# EAGLE library part MAX1614 (library custom-devices)
High-Side, N-Channel MOSFET Switch Driver
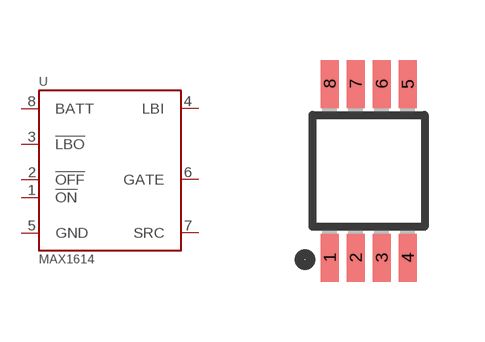
[diagram p24: symbol with the pads of UMAX8; footprint UMAX8]

Designator prefix U

## MAX1614 (DIGI-KEY: MAX1614EUA+-ND; MOUSER: 700-MAX1614EUAT)  [UMAX8]
1  !ON
2  !OFF
3  !LBO
4  LBI
5  GND
6  GATE
7  SRC
8  BATT

## Footprint UMAX8 (pad centres in mm)
micro MAX Package
smd 0.45 x 1.2: 1 -0.975,-2.175; 2 -0.325,-2.175; 3 0.325,-2.175; 4 0.975,-2.175; 5 0.975,2.175; 6 0.325,2.175; 7 -0.325,2.175; 8 -0.975,2.175